# Altium footprint library QFP (~0.8mm Pitch, Square) - Corner Index.PcbLib: 29 footprints (part 1 of 2)
Each footprint in its own frame and in the unit in brackets; x right, y up, seen from the top. Pads: shape width x height; smd on the part's side, far side on the other; paste and mask are expansions set on the pad; w line width, h text height; cw(c..) or ccw(c..) is an arc to the next point about the centre after c.
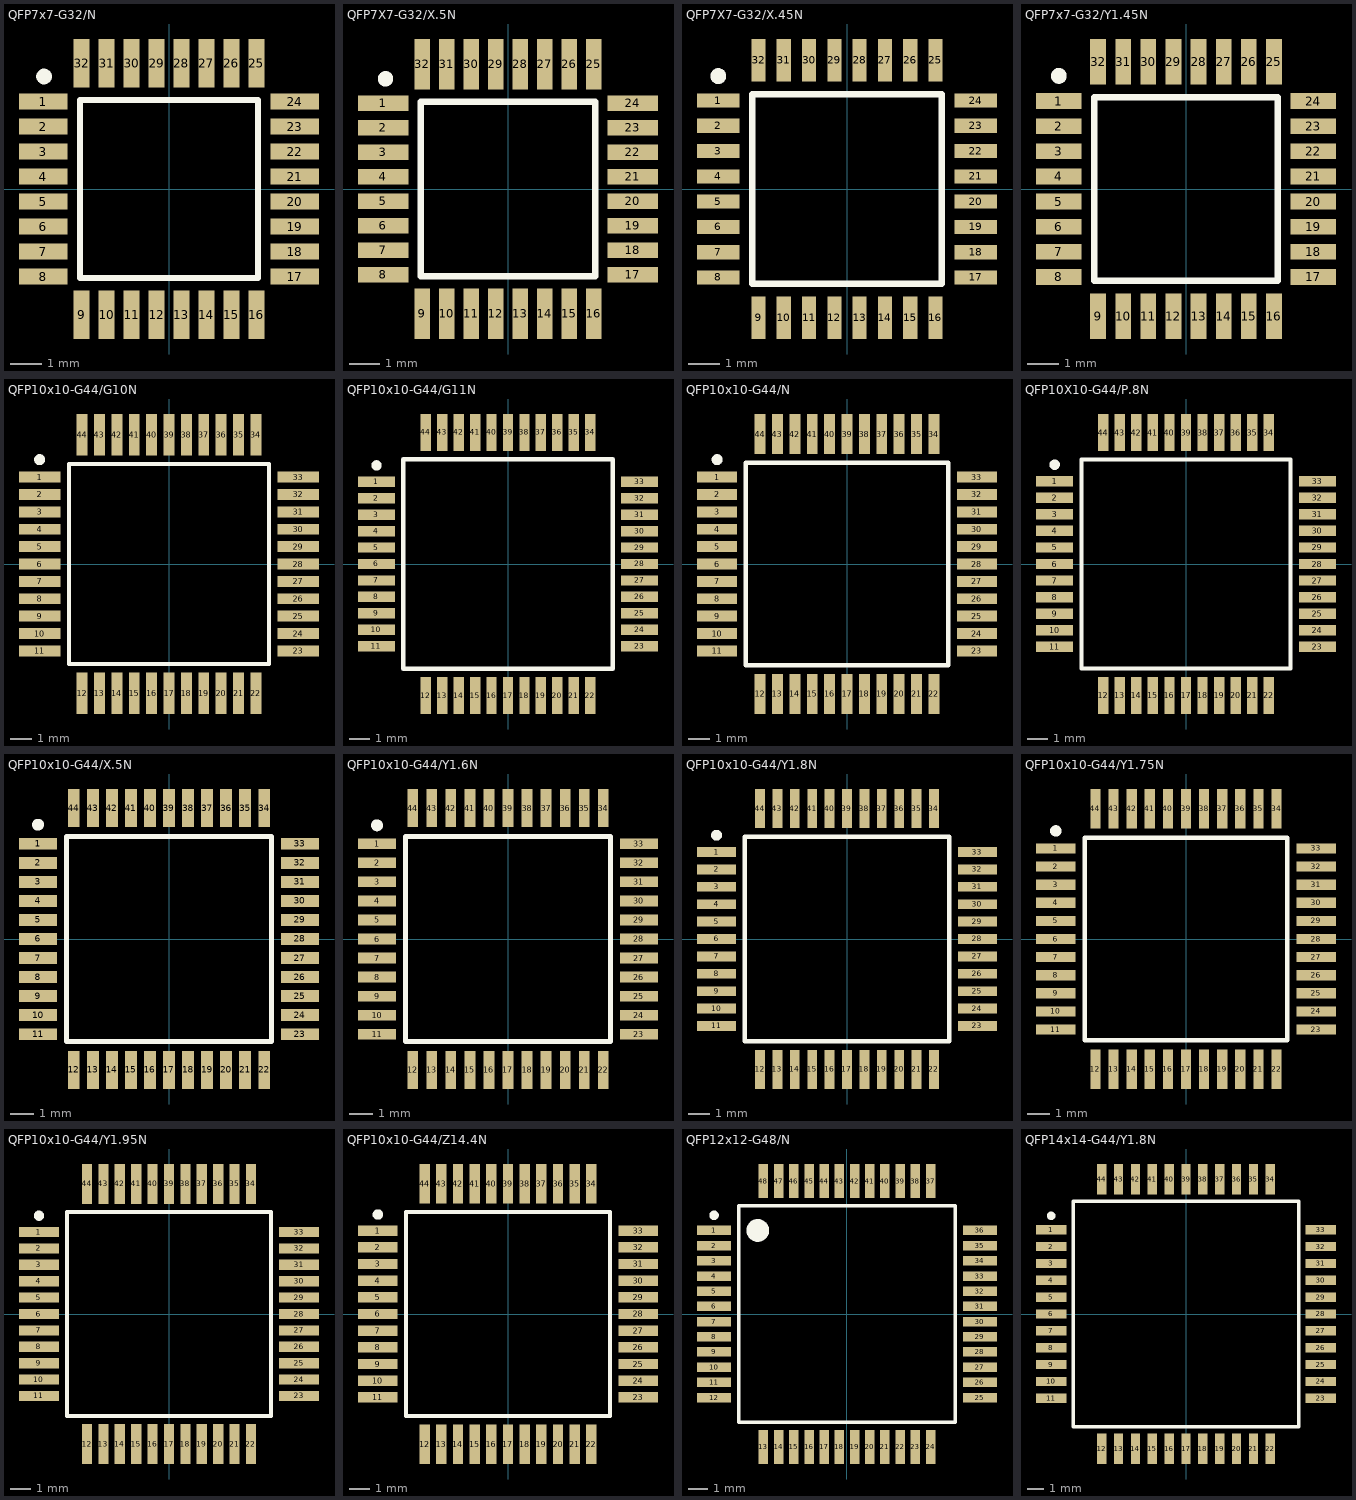
[diagram p0: the footprints below, top view; thin cyan lines are the x and y axes]

## QFP7x7-G32/N [mm] "32-Pin Plastic Thin Quad Flat Pack (TFQP)"
height 1.2
pads (32):
  rect 1.55x0.5 smd: 1(-4.025,2.8) 2(-4.025,2) 3(-4.025,1.2) 4(-4.025,0.4) 5(-4.025,-0.4) 6(-4.025,-1.2) 7(-4.025,-2) 8(-4.025,-2.8) 17(4.025,-2.8) 18(4.025,-2) 19(4.025,-1.2) 20(4.025,-0.4) 21(4.025,0.4) 22(4.025,1.2) 23(4.025,2) 24(4.025,2.8)
  rect 0.5x1.55 smd: 9(-2.8,-4.025) 10(-2,-4.025) 11(-1.2,-4.025) 12(-0.4,-4.025) 13(0.4,-4.025) 14(1.2,-4.025) 15(2,-4.025) 16(2.8,-4.025) 25(2.8,4.025) 26(2,4.025) 27(1.2,4.025) 28(0.4,4.025) 29(-0.4,4.025) 30(-1.2,4.025) 31(-2,4.025) 32(-2.8,4.025)
Top Overlay:
  circle w0.25: c-4,3.6 r0.125
  lines w0.2: -2.85,-2.85 2.85,-2.85 2.85,2.85 -2.85,2.85 -2.85,-2.85

## QFP7X7-G32/X.5N [mm] "QFP; 32 Leads; Body 7 x 7 mm; Pitch 0.8 mm"
height 1.2
pads (32):
  rect 1.65x0.5 smd: 1(-4.075,2.8) 2(-4.075,2) 3(-4.075,1.2) 4(-4.075,0.4) 5(-4.075,-0.4) 6(-4.075,-1.2) 7(-4.075,-2) 8(-4.075,-2.8) 17(4.075,-2.8) 18(4.075,-2) 19(4.075,-1.2) 20(4.075,-0.4) 21(4.075,0.4) 22(4.075,1.2) 23(4.075,2) 24(4.075,2.8)
  rect 0.5x1.65 smd: 9(-2.8,-4.075) 10(-2,-4.075) 11(-1.2,-4.075) 12(-0.4,-4.075) 13(0.4,-4.075) 14(1.2,-4.075) 15(2,-4.075) 16(2.8,-4.075) 25(2.8,4.075) 26(2,4.075) 27(1.2,4.075) 28(0.4,4.075) 29(-0.4,4.075) 30(-1.2,4.075) 31(-2,4.075) 32(-2.8,4.075)
Top Overlay:
  circle w0.25: c-4,3.6 r0.125
  lines w0.2: -2.85,-2.85 2.85,-2.85 2.85,2.85 -2.85,2.85 -2.85,-2.85

## QFP7X7-G32/X.45N [mm] "QFP; 32 Leads; Body 7 x 7 mm; Pitch 0.8 mm"
height 1.6
pads (32):
  rect 1.35x0.45 smd: 1(-4.075,2.8) 2(-4.075,2) 3(-4.075,1.2) 4(-4.075,0.4) 5(-4.075,-0.4) 6(-4.075,-1.2) 7(-4.075,-2) 8(-4.075,-2.8) 17(4.075,-2.8) 18(4.075,-2) 19(4.075,-1.2) 20(4.075,-0.4) 21(4.075,0.4) 22(4.075,1.2) 23(4.075,2) 24(4.075,2.8)
  rect 0.45x1.35 smd: 9(-2.8,-4.075) 10(-2,-4.075) 11(-1.2,-4.075) 12(-0.4,-4.075) 13(0.4,-4.075) 14(1.2,-4.075) 15(2,-4.075) 16(2.8,-4.075) 25(2.8,4.075) 26(2,4.075) 27(1.2,4.075) 28(0.4,4.075) 29(-0.4,4.075) 30(-1.2,4.075) 31(-2,4.075) 32(-2.8,4.075)
Top Overlay:
  circle w0.25: c-4.075,3.575 r0.125
  lines w0.2: -3,-3 -3,3 3,3 3,-3 -3,-3

## QFP7x7-G32/Y1.45N [mm] "QFP; 32 Leads; Body 7 x 7 mm; Pitch 0.8 mm"
height 1.85
pads (32):
  rect 1.45x0.5 smd: 1(-4.05,2.8) 2(-4.05,2) 3(-4.05,1.2) 4(-4.05,0.4) 5(-4.05,-0.4) 6(-4.05,-1.2) 7(-4.05,-2) 8(-4.05,-2.8) 17(4.05,-2.8) 18(4.05,-2) 19(4.05,-1.2) 20(4.05,-0.4) 21(4.05,0.4) 22(4.05,1.2) 23(4.05,2) 24(4.05,2.8)
  rect 0.5x1.45 smd: 9(-2.8,-4.05) 10(-2,-4.05) 11(-1.2,-4.05) 12(-0.4,-4.05) 13(0.4,-4.05) 14(1.2,-4.05) 15(2,-4.05) 16(2.8,-4.05) 25(2.8,4.05) 26(2,4.05) 27(1.2,4.05) 28(0.4,4.05) 29(-0.4,4.05) 30(-1.2,4.05) 31(-2,4.05) 32(-2.8,4.05)
Top Overlay:
  circle w0.25: c-4.05,3.6 r0.125
  lines w0.2: -2.925,-2.925 2.925,-2.925 2.925,2.925 -2.925,2.925 -2.925,-2.925

## QFP10x10-G44/G10N [mm] "QFP, Metric; 44 Leads; Body 10 x 10 mm; Pitch 0.8 mm"
height 2.45
pads (44):
  rect 1.9x0.5 smd: 1(-5.95,4) 2(-5.95,3.2) 3(-5.95,2.4) 4(-5.95,1.6) 5(-5.95,0.8) 6(-5.95,0) 7(-5.95,-0.8) 8(-5.95,-1.6) 9(-5.95,-2.4) 10(-5.95,-3.2) 11(-5.95,-4) 23(5.95,-4) 24(5.95,-3.2) 25(5.95,-2.4) 26(5.95,-1.6) 27(5.95,-0.8) 28(5.95,0) 29(5.95,0.8) 30(5.95,1.6) 31(5.95,2.4) 32(5.95,3.2) 33(5.95,4)
  rect 0.5x1.9 smd: 12(-4,-5.95) 13(-3.2,-5.95) 14(-2.4,-5.95) 15(-1.6,-5.95) 16(-0.8,-5.95) 17(0,-5.95) 18(0.8,-5.95) 19(1.6,-5.95) 20(2.4,-5.95) 21(3.2,-5.95) 22(4,-5.95) 34(4,5.95) 35(3.2,5.95) 36(2.4,5.95) 37(1.6,5.95) 38(0.8,5.95) 39(0,5.95) 40(-0.8,5.95) 41(-1.6,5.95) 42(-2.4,5.95) 43(-3.2,5.95) 44(-4,5.95)
Top Overlay:
  circle w0.25: c-5.95,4.8 r0.125
  lines w0.2: -4.6,-4.6 -4.6,4.6 4.6,4.6 4.6,-4.6 -4.6,-4.6

## QFP10x10-G44/G11N [mm] "QFP; 44 Leads; Body 10 x 10 mm; Pitch 0.8 mm"
height 2.45
pads (44):
  rect 1.8x0.5 smd: 1(-6.4,4) 2(-6.4,3.2) 3(-6.4,2.4) 4(-6.4,1.6) 5(-6.4,0.8) 6(-6.4,0) 7(-6.4,-0.8) 8(-6.4,-1.6) 9(-6.4,-2.4) 10(-6.4,-3.2) 11(-6.4,-4) 23(6.4,-4) 24(6.4,-3.2) 25(6.4,-2.4) 26(6.4,-1.6) 27(6.4,-0.8) 28(6.4,0) 29(6.4,0.8) 30(6.4,1.6) 31(6.4,2.4) 32(6.4,3.2) 33(6.4,4)
  rect 0.5x1.8 smd: 12(-4,-6.4) 13(-3.2,-6.4) 14(-2.4,-6.4) 15(-1.6,-6.4) 16(-0.8,-6.4) 17(0,-6.4) 18(0.8,-6.4) 19(1.6,-6.4) 20(2.4,-6.4) 21(3.2,-6.4) 22(4,-6.4) 34(4,6.4) 35(3.2,6.4) 36(2.4,6.4) 37(1.6,6.4) 38(0.8,6.4) 39(0,6.4) 40(-0.8,6.4) 41(-1.6,6.4) 42(-2.4,6.4) 43(-3.2,6.4) 44(-4,6.4)
Top Overlay:
  circle w0.25: c-6.4,4.8 r0.125
  lines w0.2: -5.1,-5.1 -5.1,5.1 5.1,5.1 5.1,-5.1 -5.1,-5.1

## QFP10x10-G44/N [mm] "44-Pin Plastic Quad Flat Pack (PFQP)"
height 2.45
pads (44):
  rect 1.85x0.5 smd: 1(-5.975,4) 2(-5.975,3.2) 3(-5.975,2.4) 4(-5.975,1.6) 5(-5.975,0.8) 6(-5.975,0) 7(-5.975,-0.8) 8(-5.975,-1.6) 9(-5.975,-2.4) 10(-5.975,-3.2) 11(-5.975,-4) 23(5.975,-4) 24(5.975,-3.2) 25(5.975,-2.4) 26(5.975,-1.6) 27(5.975,-0.8) 28(5.975,0) 29(5.975,0.8) 30(5.975,1.6) 31(5.975,2.4) 32(5.975,3.2) 33(5.975,4)
  rect 0.5x1.85 smd: 12(-4,-5.975) 13(-3.2,-5.975) 14(-2.4,-5.975) 15(-1.6,-5.975) 16(-0.8,-5.975) 17(0,-5.975) 18(0.8,-5.975) 19(1.6,-5.975) 20(2.4,-5.975) 21(3.2,-5.975) 22(4,-5.975) 34(4,5.975) 35(3.2,5.975) 36(2.4,5.975) 37(1.6,5.975) 38(0.8,5.975) 39(0,5.975) 40(-0.8,5.975) 41(-1.6,5.975) 42(-2.4,5.975) 43(-3.2,5.975) 44(-4,5.975)
Top Overlay:
  circle w0.25: c-5.975,4.8 r0.125
  lines w0.2: -4.65,-4.65 -4.65,4.65 4.65,4.65 4.65,-4.65 -4.65,-4.65

## QFP10X10-G44/P.8N [mm] "QFP; 44 Leads; Body 10 x 10 mm; Pitch 0.8 mm"
height 2.35
pads (44):
  rect 1.8x0.5 smd: 1(-6.35,4) 2(-6.35,3.2) 3(-6.35,2.4) 4(-6.35,1.6) 5(-6.35,0.8) 6(-6.35,0) 7(-6.35,-0.8) 8(-6.35,-1.6) 9(-6.35,-2.4) 10(-6.35,-3.2) 11(-6.35,-4) 23(6.35,-4) 24(6.35,-3.2) 25(6.35,-2.4) 26(6.35,-1.6) 27(6.35,-0.8) 28(6.35,0) 29(6.35,0.8) 30(6.35,1.6) 31(6.35,2.4) 32(6.35,3.2) 33(6.35,4)
  rect 0.5x1.8 smd: 12(-4,-6.35) 13(-3.2,-6.35) 14(-2.4,-6.35) 15(-1.6,-6.35) 16(-0.8,-6.35) 17(0,-6.35) 18(0.8,-6.35) 19(1.6,-6.35) 20(2.4,-6.35) 21(3.2,-6.35) 22(4,-6.35) 34(4,6.35) 35(3.2,6.35) 36(2.4,6.35) 37(1.6,6.35) 38(0.8,6.35) 39(0,6.35) 40(-0.8,6.35) 41(-1.6,6.35) 42(-2.4,6.35) 43(-3.2,6.35) 44(-4,6.35)
Top Overlay:
  circle w0.25: c-6.35,4.8 r0.125
  lines w0.2: -5.05,-5.05 5.05,-5.05 5.05,5.05 -5.05,5.05 -5.05,-5.05

## QFP10x10-G44/X.5N [mm] "44-Pin Plastic Thin Quad Flat Pack (TFQP)"
height 1.27
pads (44):
  rect 1.6x0.5 smd: 1(-5.5,4) 2(-5.5,3.2) 3(-5.5,2.4) 4(-5.5,1.6) 5(-5.5,0.8) 6(-5.5,0) 7(-5.5,-0.8) 8(-5.5,-1.6) 9(-5.5,-2.4) 10(-5.5,-3.2) 11(-5.5,-4) 23(5.5,-4) 24(5.5,-3.2) 25(5.5,-2.4) 26(5.5,-1.6) 27(5.5,-0.8) 28(5.5,0) 29(5.5,0.8) 30(5.5,1.6) 31(5.5,2.4) 32(5.5,3.2) 33(5.5,4)
  rect 0.5x1.6 smd: 12(-4,-5.5) 13(-3.2,-5.5) 14(-2.4,-5.5) 15(-1.6,-5.5) 16(-0.8,-5.5) 17(0,-5.5) 18(0.8,-5.5) 19(1.6,-5.5) 20(2.4,-5.5) 21(3.2,-5.5) 22(4,-5.5) 34(4,5.5) 35(3.2,5.5) 36(2.4,5.5) 37(1.6,5.5) 38(0.8,5.5) 39(0,5.5) 40(-0.8,5.5) 41(-1.6,5.5) 42(-2.4,5.5) 43(-3.2,5.5) 44(-4,5.5)
Top Overlay:
  circle w0.25: c-5.5,4.8 r0.125
  lines w0.2: -4.3,-4.3 4.3,-4.3 4.3,4.3 -4.3,4.3 -4.3,-4.3

## QFP10x10-G44/Y1.6N [mm] "QFP; 44 Leads; Body 10 x 10 mm; Pitch 0.8 mm"
height 1.1
pads (44):
  rect 1.6x0.45 smd: 1(-5.5,4) 2(-5.5,3.2) 3(-5.5,2.4) 4(-5.5,1.6) 5(-5.5,0.8) 6(-5.5,0) 7(-5.5,-0.8) 8(-5.5,-1.6) 9(-5.5,-2.4) 10(-5.5,-3.2) 11(-5.5,-4) 23(5.5,-4) 24(5.5,-3.2) 25(5.5,-2.4) 26(5.5,-1.6) 27(5.5,-0.8) 28(5.5,0) 29(5.5,0.8) 30(5.5,1.6) 31(5.5,2.4) 32(5.5,3.2) 33(5.5,4)
  rect 0.45x1.6 smd: 12(-4,-5.5) 13(-3.2,-5.5) 14(-2.4,-5.5) 15(-1.6,-5.5) 16(-0.8,-5.5) 17(0,-5.5) 18(0.8,-5.5) 19(1.6,-5.5) 20(2.4,-5.5) 21(3.2,-5.5) 22(4,-5.5) 34(4,5.5) 35(3.2,5.5) 36(2.4,5.5) 37(1.6,5.5) 38(0.8,5.5) 39(0,5.5) 40(-0.8,5.5) 41(-1.6,5.5) 42(-2.4,5.5) 43(-3.2,5.5) 44(-4,5.5)
Top Overlay:
  circle w0.25: c-5.5,4.775 r0.125
  lines w0.2: -4.3,-4.3 -4.3,4.3 4.3,4.3 4.3,-4.3 -4.3,-4.3

## QFP10x10-G44/Y1.8N [mm] "QFP; 44 Leads; Body 10 x 10 mm; Pitch 0.8 mm"
height 2.35
pads (44):
  rect 1.8x0.45 smd: 1(-6,4) 2(-6,3.2) 3(-6,2.4) 4(-6,1.6) 5(-6,0.8) 6(-6,0) 7(-6,-0.8) 8(-6,-1.6) 9(-6,-2.4) 10(-6,-3.2) 11(-6,-4) 23(6,-4) 24(6,-3.2) 25(6,-2.4) 26(6,-1.6) 27(6,-0.8) 28(6,0) 29(6,0.8) 30(6,1.6) 31(6,2.4) 32(6,3.2) 33(6,4)
  rect 0.45x1.8 smd: 12(-4,-6) 13(-3.2,-6) 14(-2.4,-6) 15(-1.6,-6) 16(-0.8,-6) 17(0,-6) 18(0.8,-6) 19(1.6,-6) 20(2.4,-6) 21(3.2,-6) 22(4,-6) 34(4,6) 35(3.2,6) 36(2.4,6) 37(1.6,6) 38(0.8,6) 39(0,6) 40(-0.8,6) 41(-1.6,6) 42(-2.4,6) 43(-3.2,6) 44(-4,6)
Top Overlay:
  circle w0.25: c-6,4.775 r0.125
  lines w0.2: -4.7,-4.7 4.7,-4.7 4.7,4.7 -4.7,4.7 -4.7,-4.7

## QFP10x10-G44/Y1.75N [mm] "QFP; 44 Leads; Body 10 x 10 mm; Pitch 0.8 mm"
height 2.1
pads (44):
  rect 1.75x0.45 smd: 1(-5.75,4) 2(-5.75,3.2) 3(-5.75,2.4) 4(-5.75,1.6) 5(-5.75,0.8) 6(-5.75,0) 7(-5.75,-0.8) 8(-5.75,-1.6) 9(-5.75,-2.4) 10(-5.75,-3.2) 11(-5.75,-4) 23(5.75,-4) 24(5.75,-3.2) 25(5.75,-2.4) 26(5.75,-1.6) 27(5.75,-0.8) 28(5.75,0) 29(5.75,0.8) 30(5.75,1.6) 31(5.75,2.4) 32(5.75,3.2) 33(5.75,4)
  rect 0.45x1.75 smd: 12(-4,-5.75) 13(-3.2,-5.75) 14(-2.4,-5.75) 15(-1.6,-5.75) 16(-0.8,-5.75) 17(0,-5.75) 18(0.8,-5.75) 19(1.6,-5.75) 20(2.4,-5.75) 21(3.2,-5.75) 22(4,-5.75) 34(4,5.75) 35(3.2,5.75) 36(2.4,5.75) 37(1.6,5.75) 38(0.8,5.75) 39(0,5.75) 40(-0.8,5.75) 41(-1.6,5.75) 42(-2.4,5.75) 43(-3.2,5.75) 44(-4,5.75)
Top Overlay:
  circle w0.25: c-5.75,4.775 r0.125
  lines w0.2: -4.475,-4.475 4.475,-4.475 4.475,4.475 -4.475,4.475 -4.475,-4.475

## QFP10x10-G44/Y1.95N [mm] "QFP; 44 Leads; Body 10 x 10 mm; Pitch 0.8 mm"
height 2.45
pads (44):
  rect 1.95x0.5 smd: 1(-6.35,4) 2(-6.35,3.2) 3(-6.35,2.4) 4(-6.35,1.6) 5(-6.35,0.8) 6(-6.35,0) 7(-6.35,-0.8) 8(-6.35,-1.6) 9(-6.35,-2.4) 10(-6.35,-3.2) 11(-6.35,-4) 23(6.35,-4) 24(6.35,-3.2) 25(6.35,-2.4) 26(6.35,-1.6) 27(6.35,-0.8) 28(6.35,0) 29(6.35,0.8) 30(6.35,1.6) 31(6.35,2.4) 32(6.35,3.2) 33(6.35,4)
  rect 0.5x1.95 smd: 12(-4,-6.35) 13(-3.2,-6.35) 14(-2.4,-6.35) 15(-1.6,-6.35) 16(-0.8,-6.35) 17(0,-6.35) 18(0.8,-6.35) 19(1.6,-6.35) 20(2.4,-6.35) 21(3.2,-6.35) 22(4,-6.35) 34(4,6.35) 35(3.2,6.35) 36(2.4,6.35) 37(1.6,6.35) 38(0.8,6.35) 39(0,6.35) 40(-0.8,6.35) 41(-1.6,6.35) 42(-2.4,6.35) 43(-3.2,6.35) 44(-4,6.35)
Top Overlay:
  circle w0.25: c-6.35,4.8 r0.125
  lines w0.2: -4.975,-4.975 -4.975,4.975 4.975,4.975 4.975,-4.975 -4.975,-4.975

## QFP10x10-G44/Z14.4N [mm] "QFP; 44 Leads; Body 10 x 10 mm; Pitch 0.8 mm"
height 2.5
pads (44):
  rect 1.9x0.5 smd: 1(-6.25,4) 2(-6.25,3.2) 3(-6.25,2.4) 4(-6.25,1.6) 5(-6.25,0.8) 6(-6.25,0) 7(-6.25,-0.8) 8(-6.25,-1.6) 9(-6.25,-2.4) 10(-6.25,-3.2) 11(-6.25,-4) 23(6.25,-4) 24(6.25,-3.2) 25(6.25,-2.4) 26(6.25,-1.6) 27(6.25,-0.8) 28(6.25,0) 29(6.25,0.8) 30(6.25,1.6) 31(6.25,2.4) 32(6.25,3.2) 33(6.25,4)
  rect 0.5x1.9 smd: 12(-4,-6.25) 13(-3.2,-6.25) 14(-2.4,-6.25) 15(-1.6,-6.25) 16(-0.8,-6.25) 17(0,-6.25) 18(0.8,-6.25) 19(1.6,-6.25) 20(2.4,-6.25) 21(3.2,-6.25) 22(4,-6.25) 34(4,6.25) 35(3.2,6.25) 36(2.4,6.25) 37(1.6,6.25) 38(0.8,6.25) 39(0,6.25) 40(-0.8,6.25) 41(-1.6,6.25) 42(-2.4,6.25) 43(-3.2,6.25) 44(-4,6.25)
Top Overlay:
  circle w0.25: c-6.25,4.775 r0.125
  lines w0.2: -4.9,-4.9 4.9,-4.9 4.9,4.9 -4.9,4.9 -4.9,-4.9

## QFP12x12-G48/N [mm] "QFP; 48 Leads; Body 12 x 12 mm; Pitch 0.8 mm"
height 2.45
pads (48):
  rect 1.8x0.5 smd: 1(-7,4.4) 2(-7,3.6) 3(-7,2.8) 4(-7,2) 5(-7,1.2) 6(-7,0.4) 7(-7,-0.4) 8(-7,-1.2) 9(-7,-2) 10(-7,-2.8) 11(-7,-3.6) 12(-7,-4.4) 25(7,-4.4) 26(7,-3.6) 27(7,-2.8) 28(7,-2) 29(7,-1.2) 30(7,-0.4) 31(7,0.4) 32(7,1.2) 33(7,2) 34(7,2.8) 35(7,3.6) 36(7,4.4)
  rect 0.5x1.8 smd: 13(-4.4,-7) 14(-3.6,-7) 15(-2.8,-7) 16(-2,-7) 17(-1.2,-7) 18(-0.4,-7) 19(0.4,-7) 20(1.2,-7) 21(2,-7) 22(2.8,-7) 23(3.6,-7) 24(4.4,-7) 37(4.4,7) 38(3.6,7) 39(2.8,7) 40(2,7) 41(1.2,7) 42(0.4,7) 43(-0.4,7) 44(-1.2,7) 45(-2,7) 46(-2.8,7) 47(-3.6,7) 48(-4.4,7)
Top Overlay:
  circle w0.25: c-7,5.2 r0.125
  circle w0.6: c-4.7,4.4 r0.3
  lines w0.2: -5.7,-5.7 5.7,-5.7 5.7,5.7 -5.7,5.7 -5.7,-5.7

## QFP14x14-G44/Y1.8N [mm] "QFP; 44 Leads; Body 14 x 14 mm; Pitch 1 mm"
height 3.4
pads (44):
  rect 1.8x0.55 smd: 1(-8,5) 2(-8,4) 3(-8,3) 4(-8,2) 5(-8,1) 6(-8,0) 7(-8,-1) 8(-8,-2) 9(-8,-3) 10(-8,-4) 11(-8,-5) 23(8,-5) 24(8,-4) 25(8,-3) 26(8,-2) 27(8,-1) 28(8,0) 29(8,1) 30(8,2) 31(8,3) 32(8,4) 33(8,5)
  rect 0.55x1.8 smd: 12(-5,-8) 13(-4,-8) 14(-3,-8) 15(-2,-8) 16(-1,-8) 17(0,-8) 18(1,-8) 19(2,-8) 20(3,-8) 21(4,-8) 22(5,-8) 34(5,8) 35(4,8) 36(3,8) 37(2,8) 38(1,8) 39(0,8) 40(-1,8) 41(-2,8) 42(-3,8) 43(-4,8) 44(-5,8)
Top Overlay:
  circle w0.25: c-8,5.825 r0.125
  lines w0.2: -6.7,-6.7 -6.7,6.7 6.7,6.7 6.7,-6.7 -6.7,-6.7